# EAGLE library part NCV7344MW3R2G (library serial_interfaces)
1/1 Transceiver - CANbus 8-DFN (3x3) Datasheet <https://www.onsemi.com/pdf/datasheet/ncv7344-d.pdf>
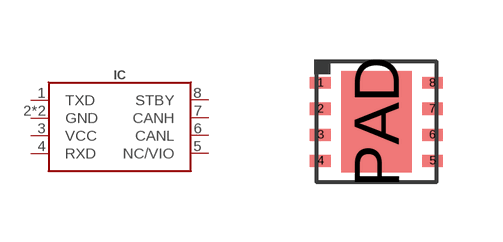
[diagram p33: symbol with the pads of DFN8; footprint DFN8]

Designator prefix IC

## NCV7344MW3R2G-DFN8(3X3) (DIGIKEY#: 488-NCV7344MW3R2GCT-ND; MANF: ON Semiconductor; MANF#: NCV7344MW3R2G; OPERATING_TEMP: -40°C ~ 150°C)  [DFN8]
1  TXD
2  GND
3  VCC
4  RXD
5  NC/VIO
6  CANL
7  CANH
8  STBY
PAD  GND

## Footprint DFN8 (pad centres in mm)
Footprint based on NCV7344 datasheet <https://www.onsemi.com/pdf/datasheet/ncv7344-d.pdf>
smd 0.525 x 0.3: 1 -1.4,0.975; 2 -1.4,0.325; 3 -1.4,-0.325; 4 -1.4,-0.975; 5 1.4,-0.975; 6 1.4,-0.325; 7 1.4,0.325; 8 1.4,0.975
smd 1.76 x 2.55: PAD 0,0